# EAGLE library part TPS2115AIPWRQ1 (library otto)
AUTO-SWITCHING POWER MULTIPLEXER
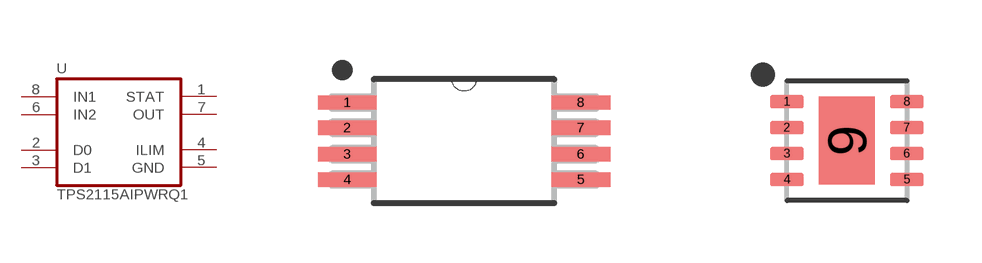
[diagram p5: symbol with the pads of SOP65P640X120-8N; footprints SOP65P640X120-8N, SON65P300X300X100-9N]

Designator prefix U

## TPS2115AIPWRQ1 (AVAILABILITY: Good; DESCRIPTION: Pwr Mux Autoswitch 1.5V to 5.5V 1.25A Automotive 8-Pin TSSOP T/R; MF: Texas Instruments; MP: TPS2115AIPWRQ1; PACKAGE: TSSOP-8 Texas Instruments; PRICE: 1.69 USD)  [SOP65P640X120-8N]
1  STAT  out
2  D0  in
3  D1  in
4  ILIM  in
5  GND  pas
6  IN2  pwr
7  OUT  out
8  IN1  pwr

## TPS2115AIPWRQ1-SON8 (MFG: Texas Instruments; MPN: TPS2115ADRBR; PN-DK: 296-23394-1-ND)  [SON65P300X300X100-9N]
1  STAT  out
2  D0  in
3  D1  in
4  ILIM  in
5  GND  pas
6  IN2  pwr
7  OUT  out
8  IN1  pwr
9  GND  pas

## Footprint SOP65P640X120-8N (pad centres in mm)
smd 1.473 x 0.356: 1 -2.921,0.965; 2 -2.921,0.33; 3 -2.921,-0.33; 4 -2.921,-0.965; 5 2.921,-0.965; 6 2.921,-0.33; 7 2.921,0.33; 8 2.921,0.965

## Footprint SON65P300X300X100-9N (pad centres in mm)
smd 0.84 x 0.32: 1 -1.5,0.975; 2 -1.5,0.325; 3 -1.5,-0.325; 4 -1.5,-0.975; 5 1.5,-0.975; 6 1.5,-0.325; 7 1.5,0.325; 8 1.5,0.975
smd 1.4 x 2.2: 9 0,0